# EAGLE library part LED_7_SEGMENT_ (library HyTechDevices - Copy)
Low-Profile 7-Segment Display Green <https://eu.mouser.com/datasheet/2/216/ACSA56-51CGKWA-245492.pdf> Yellow <https://eu.mouser.com/datasheet/2/216/ACSA56-51SYKWA-245353.pdf>
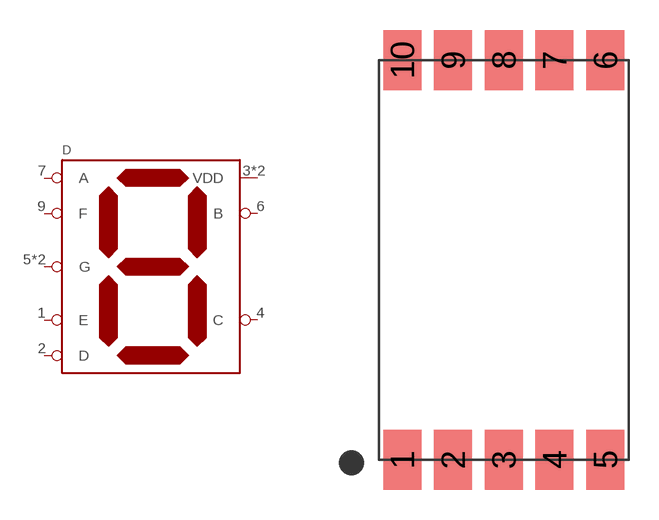
[diagram p22: symbol with the pads of ACSA56-51; footprint ACSA56-51]

Designator prefix D

## LED_7_SEGMENT_GREEN (COLOR: Green; DKPN: 754-1621-2-ND; MANUFACTURER: Kingbright; MOPN: 604-ACSA56-51CGKWA; MPN: ACSA56-51CGKWA), LED_7_SEGMENT_YELLOW (COLOR: Yellow; DKPN: 754-1624-2-ND; MANUFACTURER: Kingbright; MOPN: 604-ACSA56-51SYKWA; MPN: ACSA56-51SYKWA)  [ACSA56-51]
1  E  in
2  D  in
3  VDD  pwr
4  C  in
5  G  in
6  B  in
7  A  in
8  VDD  pwr
9  F  in
10  G  in

## Footprint ACSA56-51 (pad centres in mm)
ACSA56-51 LED 7 Segment Display Datasheet <https://mouser.com/datasheet/2/216/ACSA56-51SYKWA-245353.pdf>
smd 1.9 x 3: 1 -5.08,-10; 2 -2.54,-10; 3 0,-10; 4 2.54,-10; 5 5.08,-10; 6 5.08,10; 7 2.54,10; 8 0,10; 9 -2.54,10; 10 -5.08,10